# Altium integrated library tcan1051集成库.IntLib: 1 symbol
Pins are listed as number, name and electrical type; pins without a type are passive.

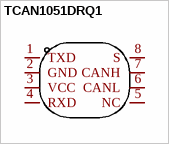
[diagram p0: symbol TCAN1051DRQ1]

## TCAN1051DRQ1
designator ?  (value not drawn)
Manufacturer: TI(德州仪器); Add into BOM: yes; Symbol: TCAN1051DRQ1; Device: TCAN1051DRQ1; LCSC Part Name: TCAN1051DRQ1; Supplier Part: C2671229; Manufacturer Part: TCAN1051DRQ1; Supplier Footprint: SOIC-8; JLCPCB Part Class: Extended Part; Supplier: LCSC; Convert to PCB: yes
3D model SOIC-8_L4.9-W3.9-H1.7-LS6.0-P1.27
footprint PCBComponent_1 - duplicate
pins: 1 TXD, 2 GND, 3 VCC, 4 RXD, 5 NC, 6 CANL, 7 CANH, 8 S